# Altium schematic symbol library SN74LVC1G19DBVR.Schlib: 1 symbol
Pins are listed as number, name and electrical type; pins without a type are passive.

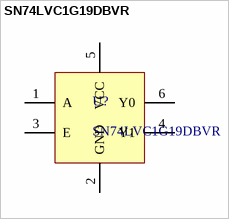
[diagram p0: symbol SN74LVC1G19DBVR]

## SN74LVC1G19DBVR
designator U?
IC MUX/DECODER SNGL 1OF2 SOT23-6
pins: 1 A, 2 GND, 3 E, 4 Y1, 5 VCC, 6 Y0